# Altium schematic symbol library SCH - AMP AUDIO - ANALOG SSM3582BCPZ.SchLib: 1 symbol
Pins are listed as number, name and electrical type; pins without a type are passive.

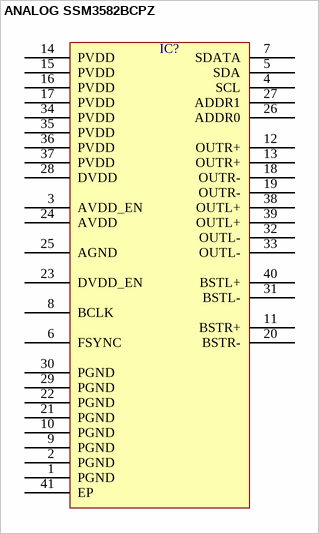
[diagram p0: symbol ANALOG SSM3582BCPZ]

## ANALOG SSM3582BCPZ
designator IC?  (value not drawn)
pins: 1 PGND, 2 PGND, 3 AVDD_EN, 4 SCL, 5 SDA, 6 FSYNC, 7 SDATA, 8 BCLK, 9 PGND, 10 PGND, 11 BSTR+, 12 OUTR+, 13 OUTR+, 14 PVDD, 15 PVDD, 16 PVDD, 17 PVDD, 18 OUTR-, 19 OUTR-, 20 BSTR-, 21 PGND, 22 PGND, 23 DVDD_EN, 24 AVDD, 25 AGND, 26 ADDR0, 27 ADDR1, 28 DVDD, 29 PGND, 30 PGND, 31 BSTL-, 32 OUTL-, 33 OUTL-, 34 PVDD, 35 PVDD, 36 PVDD, 37 PVDD, 38 OUTL+, 39 OUTL+, 40 BSTL+, 41 EP